# EAGLE library part XR-1001D (library exar)
General purpose low pass FILTER
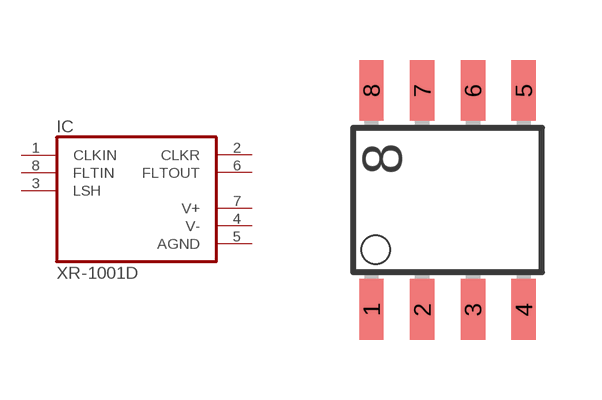
[diagram p93: symbol with the pads of SO-08; footprint SO-08]

Designator prefix IC

## XR-1001D  [SO-08]
1  CLKIN  in
2  CLKR  out
3  LSH  in
4  V-  pwr
5  AGND  pwr
6  FLTOUT  out
7  V+  pwr
8  FLTIN  in

## Footprint SO-08 (pad centres in mm)
Small Outline Package
smd 0.61 x 1.524: 1 -1.27,-2.743; 2 0,-2.743; 3 1.27,-2.743; 4 2.54,-2.743; 5 2.54,2.743; 6 1.27,2.743; 7 0,2.743; 8 -1.27,2.743